# Altium footprint library REB_MODE.PCBLIB: 8 footprints
Each footprint in its own frame and in the unit in brackets; x right, y up, seen from the top. Pads: shape width x height; smd on the part's side, far side on the other; paste and mask are expansions set on the pad; w line width, h text height; cw(c..) or ccw(c..) is an arc to the next point about the centre after c.
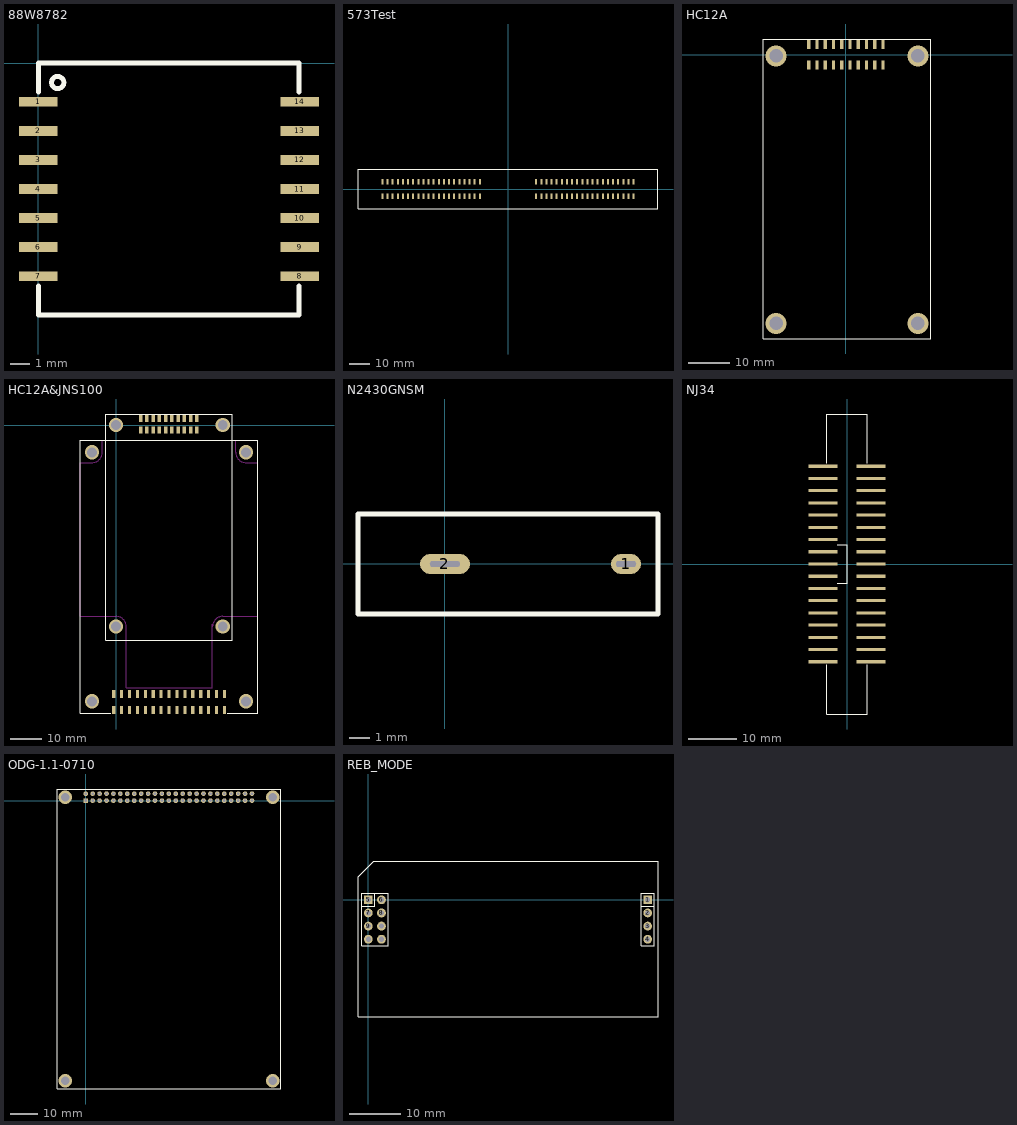
[diagram p0: the footprints below, top view; thin cyan lines are the x and y axes]

## 88W8782 [mm] "wifi模块"
height 1.5
pads (14):
  rect 2x0.5 smd: 1(0,-2) 2(0,-3.5) 3(0,-5) 4(0,-6.5) 5(0,-8) 6(0,-9.5) 7(0,-11) 8(13.5,-11) 9(13.5,-9.5) 10(13.5,-8) 11(13.5,-6.5) 12(13.5,-5) 13(13.5,-3.5) 14(13.5,-2)
Top Overlay:
  circle w0.254: c1,-1 r0.318
  lines w0.254: 0,-11.5 0,-13 13.46,-13 13.46,-11.5 ; 0,-1.5 0,0 13.46,0 13.46,-1.5

## 573Test [mm] "For 573 board test"
height 170
pads (80):
  rect 1x2.54 smd: 1(-62.23,-3.62) 2(-59.69,-3.62) 3(-57.15,-3.62) 4(-54.61,-3.62) 5(-52.07,-3.62) 6(-49.53,-3.62) 7(-46.99,-3.62) 8(-44.45,-3.62) 9(-41.91,-3.62) 10(-39.37,-3.62) 11(-36.83,-3.62) 12(-34.29,-3.62) 13(-31.75,-3.62) 14(-29.21,-3.62) 15(-26.67,-3.62) 16(-24.13,-3.62) 17(-21.59,-3.62) 18(-19.05,-3.62) 19(-16.51,-3.62) 20(-13.97,-3.62) 21(13.97,-3.62) 22(16.51,-3.62) 23(19.05,-3.62) 24(21.59,-3.62) 25(24.13,-3.62) 26(26.67,-3.62) 27(29.21,-3.62) 28(31.75,-3.62) 29(34.29,-3.62) 30(36.83,-3.62) 31(39.37,-3.62) 32(41.91,-3.62) 33(44.45,-3.62) 34(46.99,-3.62) 35(49.53,-3.62) 36(52.07,-3.62) 37(54.61,-3.62) 38(57.15,-3.62) 39(59.69,-3.62) 40(62.23,-3.62) 41(62.23,3.62) 42(59.69,3.62) 43(57.15,3.62) 44(54.61,3.62) 45(52.07,3.62) 46(49.53,3.62) 47(46.99,3.62) 48(44.45,3.62) 49(41.91,3.62) 50(39.37,3.62) 51(36.83,3.62) 52(34.29,3.62) 53(31.75,3.62) 54(29.21,3.62) 55(26.67,3.62) 56(24.13,3.62) 57(21.59,3.62) 58(19.05,3.62) 59(16.51,3.62) 60(13.97,3.62) 61(-13.97,3.62) 62(-16.51,3.62) 63(-19.05,3.62) 64(-21.59,3.62) 65(-24.13,3.62) 66(-26.67,3.62) 67(-29.21,3.62) 68(-31.75,3.62) 69(-34.29,3.62) 70(-36.83,3.62) 71(-39.37,3.62) 72(-41.91,3.62) 73(-44.45,3.62) 74(-46.99,3.62) 75(-49.53,3.62) 76(-52.07,3.62) 77(-54.61,3.62) 78(-57.15,3.62) 79(-59.69,3.62) 80(-62.23,3.62)
Top Overlay:
  lines w0.127: -74.358,-9.779 74.358,-9.779 74.358,9.779 -74.358,9.779 -74.358,-9.779

## HC12A [mm] "GPS BOARD"
height 10.16
pads (20):
  rect 0.8x2.25 smd: 1(-9,2.475) 2(-9,-2.475) 3(-7,2.475) 4(-7,-2.475) 5(-5,2.475) 6(-5,-2.475) 7(-3,2.475) 8(-3,-2.475) 9(-1,2.475) 10(-1,-2.475) 11(1,2.475) 12(1,-2.475) 13(3,2.475) 14(3,-2.475) 15(5,2.475) 16(5,-2.475) 17(7,2.475) 18(7,-2.475) 19(9,2.475) 20(9,-2.475)
via -16.874,-65.008 diameter 5.08 hole 3.302
via 17.416,-65.008 diameter 5.08 hole 3.302
via 17.416,-0.238 diameter 5.08 hole 3.302
via -16.874,-0.238 diameter 5.08 hole 3.302
Top Overlay:
  lines w0.152: -20.049,-68.818 20.591,-68.818 20.591,3.826 -20.049,3.826 -20.049,-68.818

## HC12A&JNS100 [mm]
pads (50):
  rect 1.12x2.25 smd: 1(7.933,2.124) 2(7.933,-1.626) 3(9.933,2.124) 4(9.933,-1.626) 5(11.933,2.124) 6(11.933,-1.626) 7(13.933,2.124) 8(13.933,-1.626) 9(15.933,2.124) 10(15.933,-1.626) 11(17.933,2.124) 12(17.933,-1.626) 13(19.933,2.124) 14(19.933,-1.626) 15(21.933,2.124) 16(21.933,-1.626) 17(23.933,2.124) 18(23.933,-1.626) 19(25.933,2.124) 20(25.933,-1.626)
  rect 1x2.54 smd: 21(-0.737,-86.385) 22(-0.737,-91.575) 23(1.803,-86.385) 24(1.803,-91.575) 25(4.343,-86.385) 26(4.343,-91.575) 27(6.883,-86.385) 28(6.883,-91.575) 29(9.423,-86.385) 30(9.423,-91.575) 31(11.963,-86.385) 32(11.963,-91.575) 33(14.503,-86.385) 34(14.503,-91.575) 35(17.043,-86.385) 36(17.043,-91.575) 37(19.583,-86.385) 38(19.583,-91.575) 39(22.123,-86.385) 40(22.123,-91.575) 41(24.663,-86.385) 42(24.663,-91.575) 43(27.203,-86.385) 44(27.203,-91.575) 45(29.743,-86.385) 46(29.743,-91.575) 47(32.283,-86.385) 48(32.283,-91.575) 49(34.823,-86.385) 50(34.823,-91.575)
via 41.783,-88.773 diameter 4.572 hole 3.175
via -7.747,-88.773 diameter 4.572 hole 3.175
via 41.783,-8.763 diameter 4.572 hole 3.175
via -7.747,-8.763 diameter 4.572 hole 3.175
via 0,0 diameter 4.572 hole 3.175
via 34.29,0 diameter 4.572 hole 3.175
via 0,-64.77 diameter 4.572 hole 3.175
via 34.29,-64.77 diameter 4.572 hole 3.175
Top Overlay:
  lines w0.127: -1.651,-92.583 -11.557,-92.583 -11.557,-4.953 45.593,-4.953 45.593,-92.583 35.687,-92.583 ; -3.302,-69.088 -3.302,3.556 37.338,3.556 37.338,-69.088 -3.302,-69.088
Keep-Out Layer:
  lines w0.127: 30.988,-64.77 cw(c34.29,-64.77) 34.29,-61.468 42.177,-61.468 45.593,-61.468 45.593,-12.065 41.783,-12.065 cw(c41.783,-8.763) 38.481,-8.763 38.481,-4.953 -4.445,-4.953 -4.445,-8.763 cw(c-7.747,-8.763) -7.747,-12.065 -11.557,-12.065 -11.557,-61.468 0,-61.468 cw(c0,-64.77) 3.302,-64.77 3.302,-70.955 3.302,-84.336 30.988,-84.336 30.988,-70.168 30.988,-63.995

## N2430GNSM [mm] "WIFI天线"
height 10
pads (2):
  oval 1.5x1 hole 0.3 slot 1 at 0 deg: 1(9.05,0)
  oval 2.5x1 hole 0.3 slot 1.5 at 0 deg: 2(0,0)
Top Overlay:
  lines w0.254: -4.35,-2.5 10.65,-2.5 10.65,2.5 -4.35,2.5 -4.35,-2.5

## NJ34 [mm]
height 27.5
pads (34):
  rect 6x0.64 smd: 1(-5,20.32) 2(-5,17.78) 3(-5,15.24) 4(-5,12.7) 5(-5,10.16) 6(-5,7.62) 7(-5,5.08) 8(-5,2.54) 9(-5,0) 10(-5,-2.54) 11(-5,-5.08) 12(-5,-7.62) 13(-5,-10.16) 14(-5,-12.7) 15(-5,-15.24) 16(-5,-17.78) 17(-5,-20.32) 18(5,-20.32) 19(5,-17.78) 20(5,-15.24) 21(5,-12.7) 22(5,-10.16) 23(5,-7.62) 24(5,-5.08) 25(5,-2.54) 26(5,0) 27(5,2.54) 28(5,5.08) 29(5,7.62) 30(5,10.16) 31(5,12.7) 32(5,15.24) 33(5,17.78) 34(5,20.32)
Top Overlay:
  lines w0.127: -4.2,-21 -4.2,-31.19 4.2,-31.19 4.2,-21 ; -4.2,21 -4.2,31.19 4.2,31.19 4.2,21 ; -2,-4 0,-4 0,4 -2,4

## ODG-1.1-0710 [mm] "BD Board"
height 15
pads (50):
  rect 1.7x1.7 hole 1: 1(0,0)
  round 1.7 hole 1: 2(0,2.54) 3(2.54,0) 4(2.54,2.54) 5(5.08,0) 6(5.08,2.54) 7(7.62,0) 8(7.62,2.54) 9(10.16,0) 10(10.16,2.54) 11(12.7,0) 12(12.7,2.54) 13(15.24,0) 14(15.24,2.54) 15(17.78,0) 16(17.78,2.54) 17(20.32,0) 18(20.32,2.54) 19(22.86,0) 20(22.86,2.54) 21(25.4,0) 22(25.4,2.54) 23(27.94,0) 24(27.94,2.54) 25(30.48,0) 26(30.48,2.54) 27(33.02,0) 28(33.02,2.54) 29(35.56,0) 30(35.56,2.54) 31(38.1,0) 32(38.1,2.54) 33(40.64,0) 34(40.64,2.54) 35(43.18,0) 36(43.18,2.54) 37(45.72,0) 38(45.72,2.54) 39(48.26,0) 40(48.26,2.54) 41(50.8,0) 42(50.8,2.54) 43(53.34,0) 44(53.34,2.54) 45(55.88,0) 46(55.88,2.54) 47(58.42,0) 48(58.42,2.54) 49(60.96,0) 50(60.96,2.54)
via -7.465,-102.748 diameter 5 hole 3.2
via 68.535,-102.748 diameter 5 hole 3.2
via 68.535,1.252 diameter 5 hole 3.2
via -7.465,1.252 diameter 5 hole 3.2
Top Overlay:
  lines w0.152: -10.465,-105.748 -10.465,4.252 71.535,4.252 71.535,-105.748 -10.465,-105.748

## REB_MODE [mm]
pads (12):
  rect 1.7x1.7 hole 1: 1(54,0) 5(0,0)
  round 1.7 hole 1: 2(54,-2.54) 3(54,-5.08) 4(54,-7.62) 6(2.54,0) 7(0,-2.54) 8(2.54,-2.54) 9(0,-5.08) 10(2.54,-5.08) 11(0,-7.62) 12(2.54,-7.62)
Top Overlay:
  lines w0.2: -1.27,-1.27 1.27,-1.27 1.27,1.27 ; 52.73,-1.261 55.27,-1.261 ; -2,-22.572 -2,4.428 1,7.428 56,7.428 56,-22.572 -2,-22.572 ; -1.27,-8.89 3.81,-8.89 3.81,1.27 -1.27,1.27 -1.27,-8.89 ; 52.73,-8.89 52.73,1.27 55.27,1.27 55.27,-8.89 52.73,-8.89